# Altium schematic symbol library SCH - DRIVER - LED - TI LM3445MM_1.SchLib: 1 symbol
Pins are listed as number, name and electrical type; pins without a type are passive.

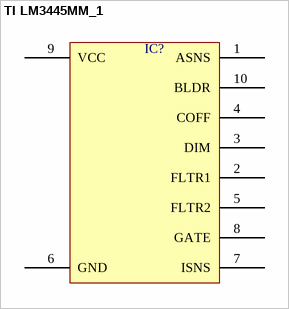
[diagram p0: symbol TI LM3445MM_1]

## TI LM3445MM_1
designator IC?  (value not drawn)
pins: 1 ASNS, 2 FLTR1, 3 DIM, 4 COFF, 5 FLTR2, 6 GND, 7 ISNS, 8 GATE, 9 VCC, 10 BLDR